# Altium schematic symbol library SE2D v1.0.SchLib: 4 symbols
Pins are listed as number, name and electrical type; pins without a type are passive.

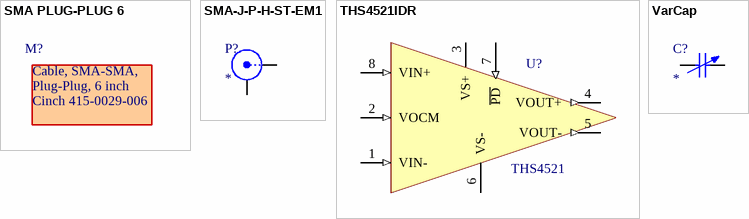
[diagram p0: symbols SMA PLUG-PLUG 6 to VarCap]

## SMA PLUG-PLUG 6
designator M?  Class: Cable, SMA-SMA,  Type: Plug-Plug, 6 inch  Other: Cinch 415-0029-006  (hidden comment: *)  (mechanical)
MANF: Cinch Connectivity Solutions Johnson; MANF_PN: 415-0029-006; VENDOR: Digikey; VENDOR_PN: J3706-ND

## SMA-J-P-H-ST-EM1
designator P?
MANF: Samtec Inc.; MANF_PN: SMA-J-P-H-ST-EM1; VENDOR: Digikey; VENDOR_PN: SAM8857-ND
footprint *SMA-J-P-H-ST-EM1_SMA-J-P-H-ST-EM1(Primary)
pins: 1 X, 2 Y

## THS4521IDR
designator U?, comment THS4521
VENDOR: Digikey; MANF: Texas Instruments; MANF_PN: THS4521IDR; VENDOR_PN: 296-39226-1-ND
footprint TI_D0008A (SOIC-8, 3.9x4.9mm (TI D0008A))
pins: 1 VIN- (in), 2 VOCM (in), 3 VS+ (power), 4 VOUT+ (out), 5 VOUT- (out), 6 VS- (power), 7 ~{PD} (in), 8 VIN+ (in)

## VarCap
designator C?
footprint SGC3S (Sprague-Goodman SGC3S Series Trimmer Cap)
pins: 1, 2